# Altium schematic symbol library ESP8266-12E_ESP-12E.SchLib: 1 symbol
Pins are listed as number, name and electrical type; pins without a type are passive.

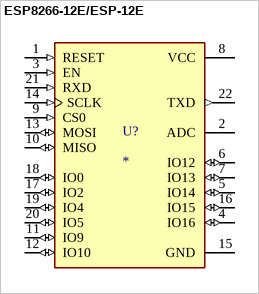
[diagram p0: symbol ESP8266-12E/ESP-12E]

## ESP8266-12E/ESP-12E
designator U?
This WiFi module has a 32-bit MCU micro and clock speeds supporting 80 MHz or 160 MHz. Supports the RTOS and integrated Wi-Fi MAC/BB/RF/PA/LNA, and has an on-board antenna.; MF: AI-Thinker; MP: ESP8266-12E/ESP-12E; Value: *; SnapEDA_Link: https://www.snapeda.com/parts/ESP8266-12E/ESP-12E/AI-Thinker/view-part/?ref=snap; Availability: Not in stock; Price: None; Package: None; Check_prices: https://www.snapeda.com/parts/ESP8266-12E/ESP-12E/AI-Thinker/view-part/?ref=eda
footprint XCVR_ESP8266-12E/ESP-12E
pins: 1 RESET (in), 2 ADC, 3 EN (in), 4 IO16 (io), 5 IO14 (io), 6 IO12 (io), 7 IO13 (io), 8 VCC (power), 9 CS0 (in), 10 MISO (io), 11 IO9 (io), 12 IO10 (io), 13 MOSI (io), 14 SCLK (in), 15 GND (power), 16 IO15 (io), 17 IO2 (io), 18 IO0 (io), 19 IO4 (io), 20 IO5 (io), 21 RXD (in), 22 TXD (out)